# Altium footprint library Resolver PcbLibPcbLib.PcbLib: 1 footprints
Each footprint in its own frame and in the unit in brackets; x right, y up, seen from the top. Pads: shape width x height; smd on the part's side, far side on the other; paste and mask are expansions set on the pad; w line width, h text height; cw(c..) or ccw(c..) is an arc to the next point about the centre after c.
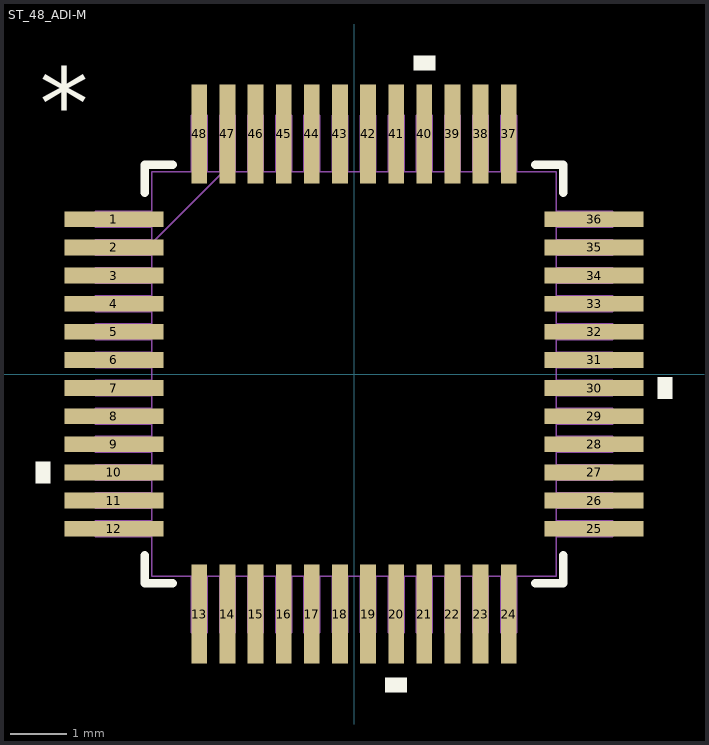
[diagram p0: the footprint, top view; thin cyan lines are the x and y axes]

## ST_48_ADI-M [mm]
pads (48):
  rect 1.762x0.279 smd paste+0 mask+0: 1(-4.266,2.75) 2(-4.266,2.25) 3(-4.266,1.75) 4(-4.266,1.25) 5(-4.266,0.75) 6(-4.266,0.25) 7(-4.266,-0.25) 8(-4.266,-0.75) 9(-4.266,-1.25) 10(-4.266,-1.75) 11(-4.266,-2.25) 12(-4.266,-2.75) 25(4.266,-2.75) 26(4.266,-2.25) 27(4.266,-1.75) 28(4.266,-1.25) 29(4.266,-0.75) 30(4.266,-0.25) 31(4.266,0.25) 32(4.266,0.75) 33(4.266,1.25) 34(4.266,1.75) 35(4.266,2.25) 36(4.266,2.75)
  rect 0.279x1.762 smd paste+0 mask+0: 13(-2.75,-4.266) 14(-2.25,-4.266) 15(-1.75,-4.266) 16(-1.25,-4.266) 17(-0.75,-4.266) 18(-0.25,-4.266) 19(0.25,-4.266) 20(0.75,-4.266) 21(1.25,-4.266) 22(1.75,-4.266) 23(2.25,-4.266) 24(2.75,-4.266) 37(2.75,4.266) 38(2.25,4.266) 39(1.75,4.266) 40(1.25,4.266) 41(0.75,4.266) 42(0.25,4.266) 43(-0.25,4.266) 44(-0.75,4.266) 45(-1.25,4.266) 46(-1.75,4.266) 47(-2.25,4.266) 48(-2.75,4.266)
Top Overlay:
  region: -5.401,-1.559 -5.655,-1.559 -5.655,-1.94 -5.401,-1.94
  region: 0.941,-5.401 0.56,-5.401 0.56,-5.655 0.941,-5.655
  region: 5.401,-0.059 5.655,-0.059 5.655,-0.44 5.401,-0.44
  region: 1.441,5.401 1.06,5.401 1.06,5.655 1.441,5.655
  lines w0.152: -3.721,-3.222 -3.721,-3.721 -3.222,-3.721 ; -3.721,3.222 -3.721,3.721 -3.222,3.721 ; 3.222,-3.721 3.721,-3.721 3.721,-3.222 ; 3.222,3.721 3.721,3.721 3.721,3.222
  text "*" at -5.588,4.191 h1.27
Mechanical 13:
  drawing of 197 lines, arcs and shapes, not listed
  text "*" at -3.531,2.365 h1.27
3D body "ST_48_ADI.step": height 1.6, standoff 0, extent -4.597,-4.597 4.597,4.597
3D body: height 0.25, standoff 0, extent 0,0 0.254,0.254